# Altium footprint library 接插件.PcbLib: 193 footprints (part 9 of 13)
Each footprint in its own frame and in the unit in brackets; x right, y up, seen from the top. Pads: shape width x height; smd on the part's side, far side on the other; paste and mask are expansions set on the pad; w line width, h text height; cw(c..) or ccw(c..) is an arc to the next point about the centre after c.
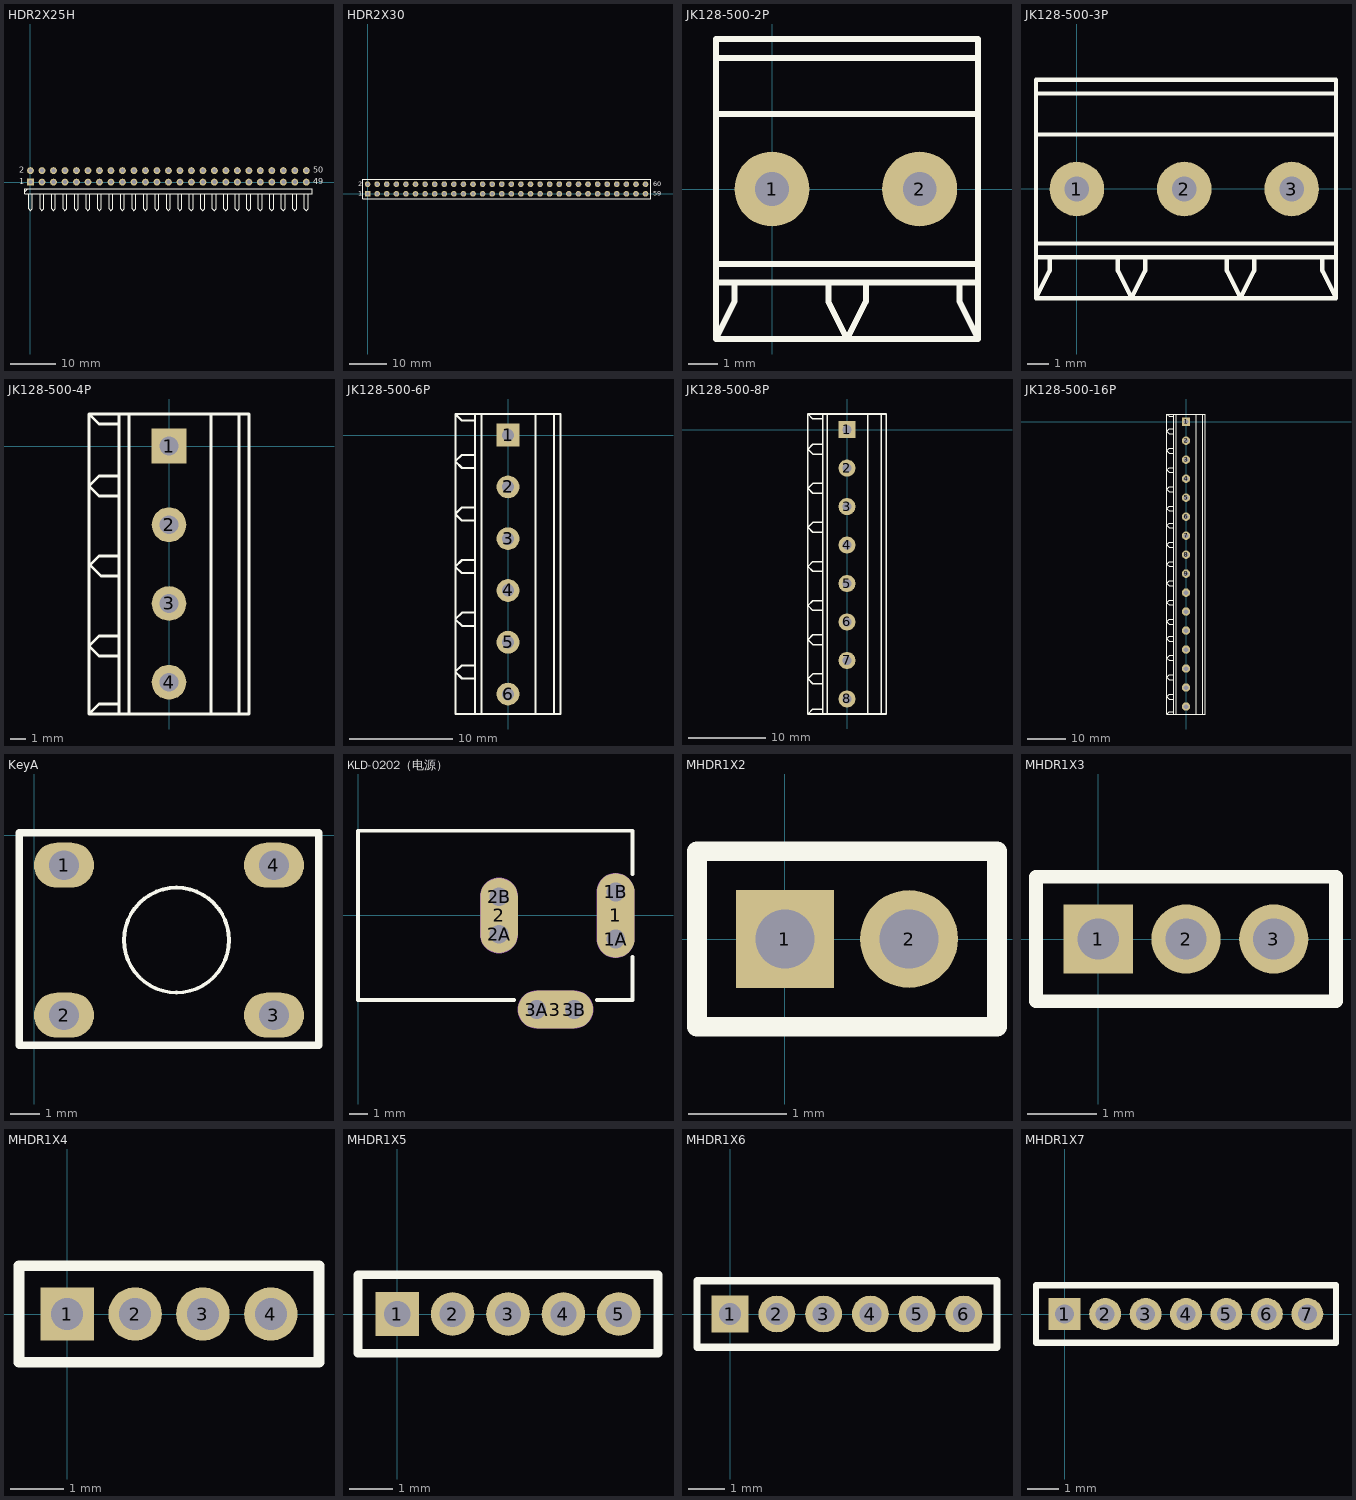
[diagram p8: the footprints below, top view; thin cyan lines are the x and y axes]

## HDR2X25H [mm] "Connector; Header; 25x2 Position; Right Angle"
pads (50):
  rect 1.5x1.5 hole 0.9: 1(0,0)
  round 1.5 hole 0.9: 2(0,2.54) 3(2.54,0) 4(2.54,2.54) 5(5.08,0) 6(5.08,2.54) 7(7.62,0) 8(7.62,2.54) 9(10.16,0) 10(10.16,2.54) 11(12.7,0) 12(12.7,2.54) 13(15.24,0) 14(15.24,2.54) 15(17.78,0) 16(17.78,2.54) 17(20.32,0) 18(20.32,2.54) 19(22.86,0) 20(22.86,2.54) 21(25.4,0) 22(25.4,2.54) 23(27.94,0) 24(27.94,2.54) 25(30.48,0) 26(30.48,2.54) 27(33.02,0) 28(33.02,2.54) 29(35.56,0) 30(35.56,2.54) 31(38.1,0) 32(38.1,2.54) 33(40.64,0) 34(40.64,2.54) 35(43.18,0) 36(43.18,2.54) 37(45.72,0) 38(45.72,2.54) 39(48.26,0) 40(48.26,2.54) 41(50.8,0) 42(50.8,2.54) 43(53.34,0) 44(53.34,2.54) 45(55.88,0) 46(55.88,2.54) 47(58.42,0) 48(58.42,2.54) 49(60.96,0) 50(60.96,2.54)
Top Overlay:
  lines w0.2: -1.27,-2.117 -0.635,-1.482 ; -0.423,-2.54 -0.423,-5.927 0,-6.35 0.423,-5.927 0.423,-2.54 ; 2.117,-2.54 2.117,-5.927 2.54,-6.35 2.963,-5.927 2.963,-2.54 ; 4.657,-2.54 4.657,-5.927 5.08,-6.35 5.503,-5.927 5.503,-2.54 ; 7.197,-2.54 7.197,-5.927 7.62,-6.35 8.043,-5.927 8.043,-2.54 ; 9.737,-2.54 9.737,-5.927 10.16,-6.35 10.583,-5.927 10.583,-2.54 ; 12.277,-2.54 12.277,-5.927 12.7,-6.35 13.123,-5.927 13.123,-2.54 ; 14.817,-2.54 14.817,-5.927 15.24,-6.35 15.663,-5.927 15.663,-2.54 ; 17.357,-2.54 17.357,-5.927 17.78,-6.35 18.203,-5.927 18.203,-2.54 ; 19.897,-2.54 19.897,-5.927 20.32,-6.35 20.743,-5.927 20.743,-2.54 ; 22.437,-2.54 22.437,-5.927 22.86,-6.35 23.283,-5.927 23.283,-2.54 ; 24.977,-2.54 24.977,-5.927 25.4,-6.35 25.823,-5.927 25.823,-2.54 ; 27.517,-2.54 27.517,-5.927 27.94,-6.35 28.363,-5.927 28.363,-2.54 ; 30.057,-2.54 30.057,-5.927 30.48,-6.35 30.903,-5.927 30.903,-2.54 ; 32.597,-2.54 32.597,-5.927 33.02,-6.35 33.443,-5.927 33.443,-2.54 ; 35.137,-2.54 35.137,-5.927 35.56,-6.35 35.983,-5.927 35.983,-2.54 ; 37.677,-2.54 37.677,-5.927 38.1,-6.35 38.523,-5.927 38.523,-2.54 ; 40.217,-2.54 40.217,-5.927 40.64,-6.35 41.063,-5.927 41.063,-2.54 ; 42.757,-2.54 42.757,-5.927 43.18,-6.35 43.603,-5.927 43.603,-2.54 ; 45.297,-2.54 45.297,-5.927 45.72,-6.35 46.143,-5.927 46.143,-2.54 ; 47.837,-2.54 47.837,-5.927 48.26,-6.35 48.683,-5.927 48.683,-2.54 ; 50.377,-2.54 50.377,-5.927 50.8,-6.35 51.223,-5.927 51.223,-2.54 ; 52.917,-2.54 52.917,-5.927 53.34,-6.35 53.763,-5.927 53.763,-2.54 ; 55.457,-2.54 55.457,-5.927 55.88,-6.35 56.303,-5.927 56.303,-2.54 ; 57.997,-2.54 57.997,-5.927 58.42,-6.35 58.843,-5.927 58.843,-2.54 ; 60.537,-2.54 60.537,-5.927 60.96,-6.35 61.383,-5.927 61.383,-2.54 ; -1.27,-2.54 62.23,-2.54 62.23,-1.482 -1.27,-1.482 -1.27,-2.54
  text "50" at 62.484,2.032 h1.27
  text "49" at 62.484,-0.508 h1.27
  text "1" at -2.54,-0.508 h1.27
  text "2" at -2.54,2.032 h1.27

## HDR2X30 [mm] "Connector; Header; 30x2 Position"
pads (60):
  rect 1.5x1.5 hole 0.9: 1(0,0)
  round 1.5 hole 0.9: 2(0,2.54) 3(2.54,0) 4(2.54,2.54) 5(5.08,0) 6(5.08,2.54) 7(7.62,0) 8(7.62,2.54) 9(10.16,0) 10(10.16,2.54) 11(12.7,0) 12(12.7,2.54) 13(15.24,0) 14(15.24,2.54) 15(17.78,0) 16(17.78,2.54) 17(20.32,0) 18(20.32,2.54) 19(22.86,0) 20(22.86,2.54) 21(25.4,0) 22(25.4,2.54) 23(27.94,0) 24(27.94,2.54) 25(30.48,0) 26(30.48,2.54) 27(33.02,0) 28(33.02,2.54) 29(35.56,0) 30(35.56,2.54) 31(38.1,0) 32(38.1,2.54) 33(40.64,0) 34(40.64,2.54) 35(43.18,0) 36(43.18,2.54) 37(45.72,0) 38(45.72,2.54) 39(48.26,0) 40(48.26,2.54) 41(50.8,0) 42(50.8,2.54) 43(53.34,0) 44(53.34,2.54) 45(55.88,0) 46(55.88,2.54) 47(58.42,0) 48(58.42,2.54) 49(60.96,0) 50(60.96,2.54) 51(63.5,0) 52(63.5,2.54) 53(66.04,0) 54(66.04,2.54) 55(68.58,0) 56(68.58,2.54) 57(71.12,0) 58(71.12,2.54) 59(73.66,0) 60(73.66,2.54)
Top Overlay:
  lines w0.2: -1.27,-1.27 75.06,-1.27 75.06,3.81 -1.27,3.81 -1.27,-1.27
  text "60" at 75.692,2.032 h1.27
  text "59" at 75.692,-0.508 h1.27
  text "1" at -2.54,-0.508 h1.27
  text "2" at -2.54,2.032 h1.27
Bottom Overlay:
  text "1" at -55.88,-0.508 h1.27

## JK128-500-2P [mil]
pads (2):
  round 100 hole 45: 1(0,0) 2(196.85,0)
Top Overlay:
  lines w8: -75,-125 275,-125 ; -75,-100 275,-100 ; -75,100 275,100 ; -75,175 275,175 ; -50,-125 -50,-150 -75,-200 ; 75,-125 75,-150 100,-200 125,-150 125,-125 ; 250,-125 250,-150 275,-200 ; -75,-200 -75,200 275,200 275,-200 ; -75,-200 275,-200

## JK128-500-3P [mil]
pads (3):
  round 100 hole 45: 1(0,-0.02) 2(196.85,-0.02) 3(393.7,-0.02)
Top Overlay:
  lines w8: -75,-125.02 225,-125.02 275,-125.02 275,-150.02 300,-200.02 325,-150.02 325,-125.02 ; -75,99.98 225,99.98 275,99.98 ; -75,174.98 225,174.98 275,174.98 ; -50,-125.02 -50,-150.02 -75,-200.02 ; 75,-125.02 75,-150.02 100,-200.02 125,-150.02 125,-125.02 425,-125.02 475,-125.02 ; 125,-200.02 425,-200.02 475,-200.02 ; 125,-100.02 425,-100.02 475,-100.02 ; 125,99.98 425,99.98 475,99.98 ; 125,174.98 425,174.98 475,174.98 ; 125,199.98 425,199.98 475,199.98 475,149.98 475,-150.02 475,-200.02 ; 275,-200.02 225,-200.02 -75,-200.02 ; 275,-100.02 225,-100.02 -75,-100.02 ; 275,199.98 225,199.98 -75,199.98 -75,-100.02 ; 450,-125.02 450,-150.02 475,-200.02 ; -75,-200.02 -75,-100.02

## JK128-500-4P [mm]
pads (4):
  rect 2.2x2.2 hole 1.2: 1(0,0)
  round 2.2 hole 1.2: 2(0,-5) 3(0,-10) 4(0,-15)
Top Overlay:
  lines w0.2: -5.08,-12.827 -5.08,-12.7 ; -5.08,-7.62 -4.445,-6.985 -3.302,-6.985 ; -5.08,-7.493 -4.318,-8.255 -3.175,-8.255 ; -3.302,-3.175 -4.445,-3.175 -5.08,-2.54 -4.445,-1.905 -3.175,-1.905 ; -3.175,-17.018 -3.175,2.032 ; -3.175,-16.383 -4.445,-16.383 -5.08,-17.018 ; -3.175,-12.065 -4.445,-12.065 -5.08,-12.7 ; -3.175,1.397 -4.445,1.397 -5.08,2.032 ; -2.54,-17.018 -2.54,2.032 ; 2.667,-17.018 2.667,2.032 ; 4.445,-17.018 4.445,2.032 ; -5.08,-17.018 -5.08,2.032 ; -5.08,-17.018 5.08,-17.018 5.08,2.032 -5.08,2.032 ; -5.08,-12.7 -4.445,-13.335 ; -4.445,-13.335 -3.175,-13.335 -4.445,-13.335

## JK128-500-6P [mm]
pads (6):
  rect 2.2x2.2 hole 1.2: 1(0,0)
  round 2.2 hole 1.2: 2(0,-5) 3(0,-10) 4(0,-15) 5(0,-20) 6(0,-25)
Top Overlay:
  lines w0.2: -4.318,-13.335 -3.175,-13.335 ; -4.318,-12.065 -4.445,-12.065 ; -3.937,-13.335 -4.445,-13.335 -5.08,-12.7 -4.445,-12.065 ; -3.175,-26.924 -3.175,0 ; -3.175,-23.495 -4.445,-23.495 -5.08,-22.86 -4.445,-22.225 -3.175,-22.225 ; -3.175,-18.415 -4.445,-18.415 -5.08,-17.78 -4.445,-17.145 -3.175,-17.145 ; -3.175,-12.065 -4.445,-12.065 ; -3.175,-8.255 -4.445,-8.255 -5.08,-7.62 -4.445,-6.985 -3.175,-6.985 ; -3.175,-3.175 -4.445,-3.175 -5.08,-2.54 -4.445,-1.905 -3.175,-1.905 ; -3.175,-0.635 -3.175,2.032 2.54,2.032 ; -3.175,1.397 -4.445,1.397 -5.08,2.032 ; -2.667,2.032 -5.08,2.032 ; -2.54,-26.924 -2.54,2.032 ; 2.413,2.032 5.08,2.032 5.08,1.905 5.08,-26.924 -5.08,-26.924 -5.08,2.032 ; 2.667,-26.924 2.667,2.032 ; 4.445,-26.924 4.445,2.032

## JK128-500-8P [mm]
pads (8):
  rect 2.2x2.2 hole 1.2: 1(0,0)
  round 2.2 hole 1.2: 2(0,-5) 3(0,-10) 4(0,-15) 5(0,-20) 6(0,-25) 7(0,-30) 8(0,-35)
Top Overlay:
  lines w0.2: -4.318,-13.335 -3.175,-13.335 ; -4.318,-12.065 -4.445,-12.065 ; -3.937,-13.335 -4.445,-13.335 -5.08,-12.7 -4.445,-12.065 ; -3.175,-36.957 -3.175,0 ; -3.175,-36.322 -4.445,-36.322 -5.08,-36.957 ; -3.175,-33.02 -4.445,-33.02 -5.08,-32.385 -4.445,-31.75 -3.175,-31.75 ; -3.175,-27.94 -4.445,-27.94 -5.08,-27.305 -4.445,-26.67 -3.175,-26.67 ; -3.175,-23.495 -4.445,-23.495 -5.08,-22.86 -4.445,-22.225 -3.175,-22.225 ; -3.175,-18.415 -4.445,-18.415 -5.08,-17.78 -4.445,-17.145 -3.175,-17.145 ; -3.175,-12.065 -4.445,-12.065 ; -3.175,-8.255 -4.445,-8.255 -5.08,-7.62 -4.445,-6.985 -3.175,-6.985 ; -3.175,-3.175 -4.445,-3.175 -5.08,-2.54 -4.445,-1.905 -3.175,-1.905 ; -3.175,-0.635 -3.175,2.032 2.54,2.032 ; -3.175,1.397 -4.445,1.397 -5.08,2.032 ; -2.667,2.032 -5.08,2.032 ; -2.54,-36.957 -2.54,2.032 ; 2.413,2.032 5.08,2.032 5.08,1.905 5.08,-36.957 -5.08,-36.957 ; 2.667,-36.957 2.667,2.032 ; 4.445,-36.957 4.445,2.032 ; -5.08,-36.957 -5.08,2.032

## JK128-500-16P [mm]
pads (16):
  rect 2.2x2.2 hole 1.2: 1(0,0)
  round 2.2 hole 1.2: 2(0,-5) 3(0,-10) 4(0,-15) 5(0,-20) 6(0,-25) 7(0,-30) 8(0,-35) 9(0,-40) 10(0,-45) 11(0,-50) 12(0,-55) 13(0,-60) 14(0,-65) 15(0,-70) 16(0,-75)
Top Overlay:
  lines w0.2: -4.953,-76.835 -4.445,-76.327 -3.175,-76.327 ; -4.318,-13.335 -3.175,-13.335 ; -4.318,-12.065 -4.445,-12.065 ; -3.937,-13.335 -4.445,-13.335 -5.08,-12.7 -4.445,-12.065 ; -3.175,-73.025 -4.445,-73.025 -5.08,-72.39 -4.445,-71.755 -3.175,-71.755 ; -3.175,-67.945 -4.445,-67.945 -5.08,-67.31 -4.445,-66.675 -3.175,-66.675 ; -3.175,-62.865 -4.445,-62.865 -5.08,-62.23 -4.318,-61.468 -3.175,-61.468 ; -3.175,-57.785 -4.445,-57.785 -5.08,-57.15 -4.445,-56.515 -3.175,-56.515 ; -3.175,-53.34 -4.445,-53.34 -5.08,-52.705 -4.445,-52.07 -3.175,-52.07 ; -3.175,-48.26 -4.445,-48.26 -5.08,-47.625 -4.445,-46.99 -3.175,-46.99 ; -3.175,-43.18 -4.445,-43.18 -5.08,-42.545 -4.445,-41.91 -3.175,-41.91 ; -3.175,-38.1 -4.318,-38.1 -4.445,-38.1 -5.08,-37.465 -4.445,-36.83 -3.175,-36.83 ; -3.175,-33.02 -4.445,-33.02 -5.08,-32.385 -4.445,-31.75 -3.175,-31.75 ; -3.175,-27.94 -4.445,-27.94 -5.08,-27.305 -4.445,-26.67 -3.175,-26.67 ; -3.175,-23.495 -4.445,-23.495 -5.08,-22.86 -4.445,-22.225 -3.175,-22.225 ; -3.175,-18.415 -4.445,-18.415 -5.08,-17.78 -4.445,-17.145 -3.175,-17.145 ; -3.175,-12.065 -4.445,-12.065 ; -3.175,-8.255 -4.445,-8.255 -5.08,-7.62 -4.445,-6.985 -3.175,-6.985 ; -3.175,-3.175 -4.445,-3.175 -5.08,-2.54 -4.445,-1.905 -3.175,-1.905 ; -3.175,-0.635 -3.175,2.032 2.54,2.032 ; -3.175,0 -3.175,-76.962 2.54,-76.962 ; -3.175,1.397 -4.445,1.397 -5.08,2.032 ; -2.667,2.032 -5.08,2.032 ; -2.54,-76.962 -2.54,2.032 ; -2.413,-76.962 -5.08,-76.962 -5.08,2.032 ; 2.413,-76.962 5.08,-76.962 5.08,1.905 5.08,2.032 2.413,2.032 ; 2.667,-76.962 2.667,2.032 ; 4.445,-76.962 4.445,2.032

## KeyA [mil]
pads (4):
  oval 80x60 hole 39.37: 1(40,-40) 2(40,-240) 3(320,-240) 4(320,-40)
Top Overlay:
  circle w5: c190,-140 r70
  lines w10: -20,-280 -20,-240 -20,0 -20,2.99 8.82,2.99 371.02,2.99 380,2.99 380,-240 380,-280 140,-280 -20,-280

## KLD-0202（电源） [mm] "DC Power Jack, 2.5mm, KLD Series, PCB Mount"
pads (9):
  oval 2x4.5 all layers, no hole: 1(13.7,0)
  round 1.5 hole 1: 1A(13.7,-1.25) 1B(13.7,1.25) 2A(7.5,-1) 2B(7.5,1) 3A(9.5,-5) 3B(11.5,-5)
  oval 2x4 all layers, no hole: 2(7.5,0)
  oval 4x2 all layers, no hole: 3(10.5,-5)
Top Overlay:
  lines w0.2: 8.3,-4.5 0,-4.5 0,4.5 14.6,4.5 14.6,2.2 ; 12.7,-4.5 14.6,-4.5 14.6,-2.2
Mechanical 1:
  lines w1: 7.5,-1 7.5,1 ; 9.5,-5 11.5,-5 ; 13.7,-1.25 13.7,1.25
  text "Alert PCB fab to slot details" at 0.286,6.066 h0.3
  text "Assign keep-out area to slot" at 0.286,6.566 h0.3
  text "Mech 1 - Slot cut-out" at 0.286,5.566 h0.3
  text "Mech 2 - Clearance, move to internal plane if present" at 0.286,5.066 h0.3
Mechanical 2:
  lines w2.016: 7.5,-1 7.5,1 ; 9.5,-5 11.5,-5 ; 13.7,-1.25 13.7,1.25

## MHDR1X2 [mm] "Connector; Header; 2 Position"
pads (2):
  rect 1x1 hole 0.6: 1(0,0)
  round 1 hole 0.6: 2(1.27,0)
Top Overlay:
  lines w0.2: -0.9,-0.9 -0.9,0.9 2.17,0.9 2.17,-0.9 -0.9,-0.9

## MHDR1X3 [mm] "Connector; Header; 3 Position"
pads (3):
  rect 1x1 hole 0.6: 1(0,0)
  round 1 hole 0.6: 2(1.27,0) 3(2.54,0)
Top Overlay:
  lines w0.2: -0.9,-0.9 -0.9,0.9 3.44,0.9 3.44,-0.9 -0.9,-0.9

## MHDR1X4 [mm] "Connector; Header; 4 Position"
pads (4):
  rect 1x1 hole 0.6: 1(0,0)
  round 1 hole 0.6: 2(1.27,0) 3(2.54,0) 4(3.81,0)
Top Overlay:
  lines w0.2: -0.9,-0.9 -0.9,0.9 4.71,0.9 4.71,-0.9 -0.9,-0.9

## MHDR1X5 [mm] "Connector; Header; 5 Position"
pads (5):
  rect 1x1 hole 0.6: 1(0,0)
  round 1 hole 0.6: 2(1.27,0) 3(2.54,0) 4(3.81,0) 5(5.08,0)
Top Overlay:
  lines w0.2: -0.9,-0.9 -0.9,0.9 5.98,0.9 5.98,-0.9 -0.9,-0.9

## MHDR1X6 [mm] "Connector; Header; 6 Position"
pads (6):
  rect 1x1 hole 0.6: 1(0,0)
  round 1 hole 0.6: 2(1.27,0) 3(2.54,0) 4(3.81,0) 5(5.08,0) 6(6.35,0)
Top Overlay:
  lines w0.2: -0.9,-0.9 7.25,-0.9 7.25,0.9 -0.9,0.9 -0.9,-0.9

## MHDR1X7 [mm] "Connector; Header; 7 Position"
pads (7):
  rect 1x1 hole 0.6: 1(0,0)
  round 1 hole 0.6: 2(1.27,0) 3(2.54,0) 4(3.81,0) 5(5.08,0) 6(6.35,0) 7(7.62,0)
Top Overlay:
  lines w0.2: -0.9,-0.9 -0.9,0.9 8.52,0.9 8.52,-0.9 -0.9,-0.9